# Altium schematic symbol library Schlib1.SchLib: 11 symbols
Pins are listed as number, name and electrical type; pins without a type are passive.

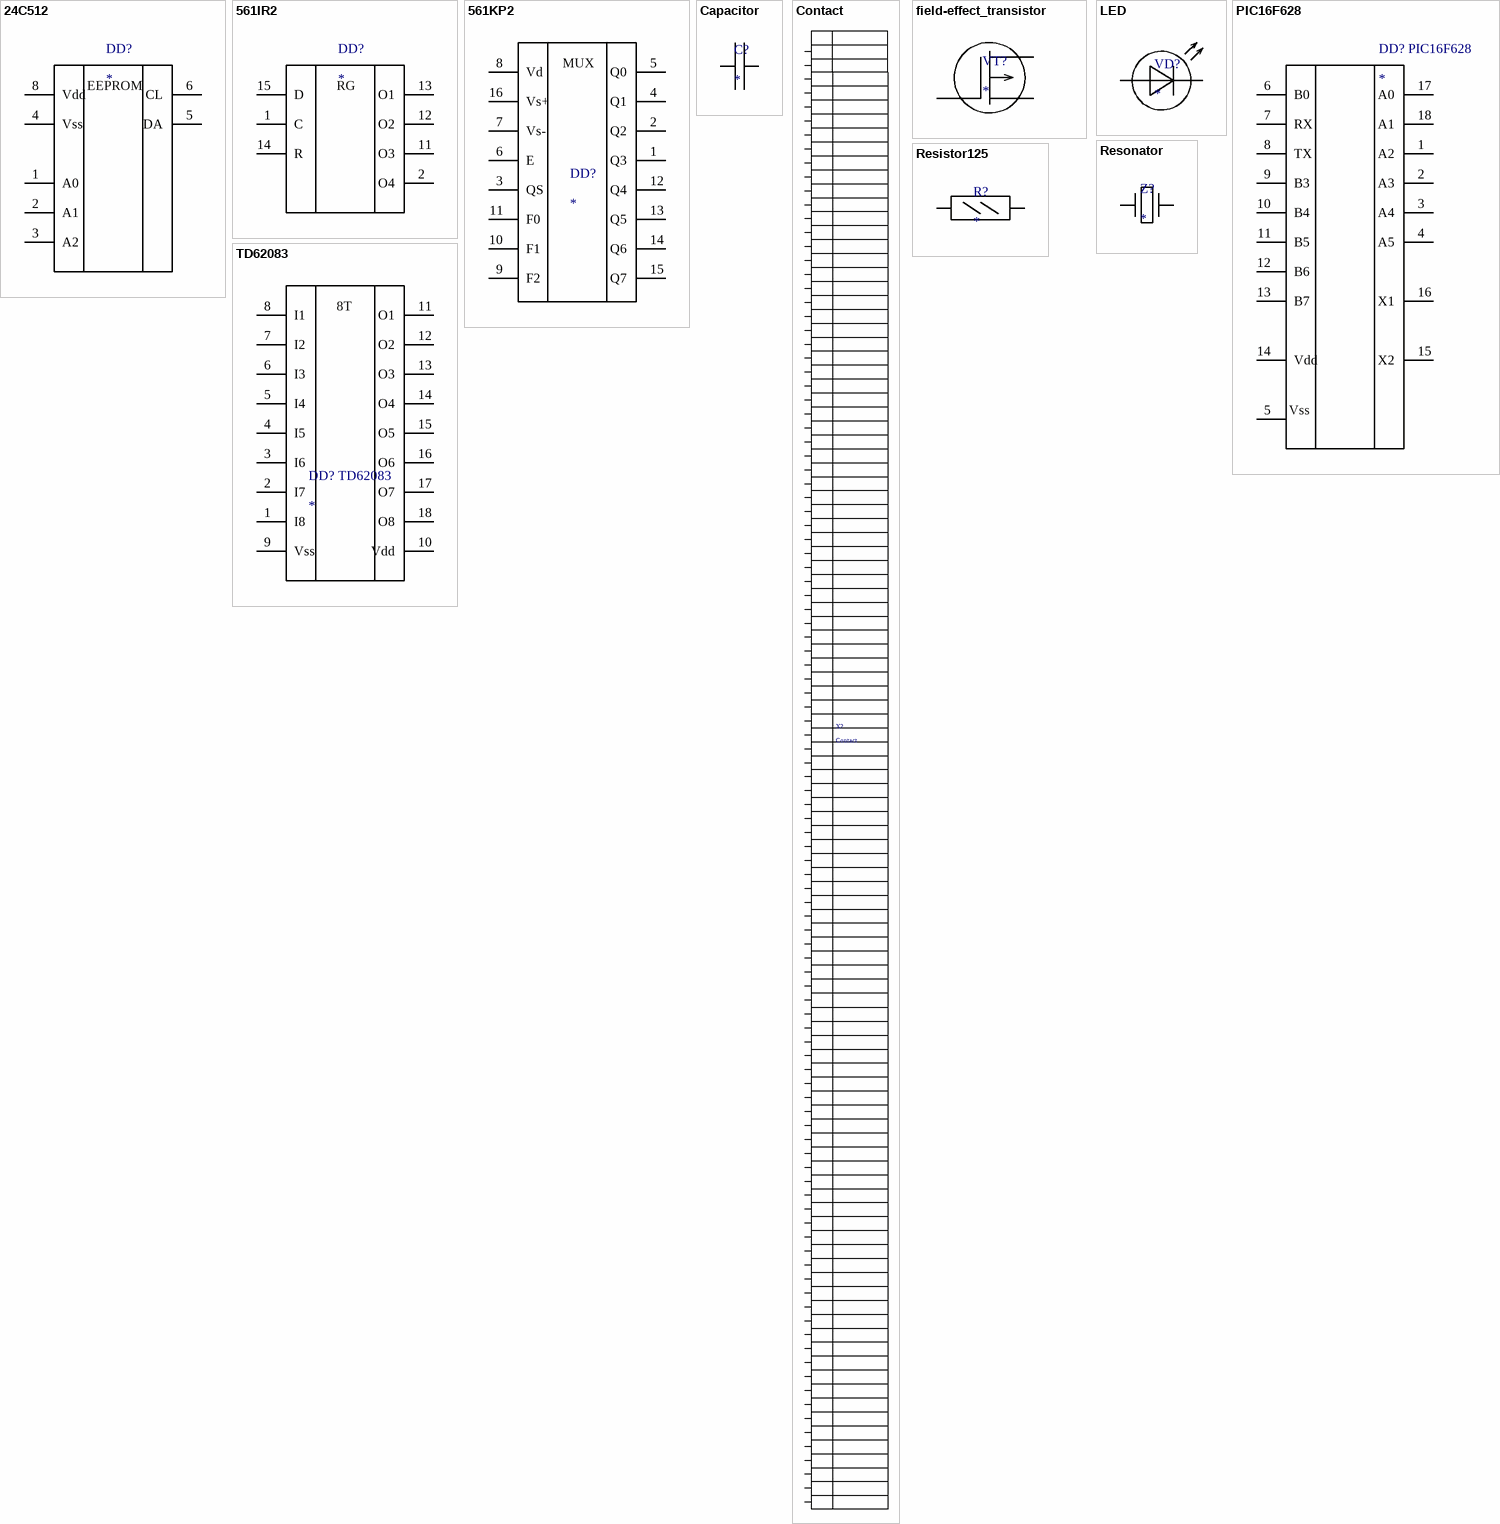
[diagram p0: symbols 24C512 to TD62083]

## 24C512
designator DD?
EEPROM/24C512-SMD
footprint 24C512 (SOIC, 8-Leads, Body 4,90x3,90mm, Pitch 1,27mm, IPC Medium Density)
pins: 1 A0, 2 A1, 3 A2, 4 Vss, 5 DA, 6 CL, 8 Vdd
text: EEPROM

## 561IR2
designator DD?
Регистр сдвига
footprint CD4015 (SOIC, 16-Leads, Body 12,80x7,50mm, Pitch 1,27mm, IPC Medium Density)
pins: 1 C, 2 O4, 11 O3, 12 O2, 13 O1, 14 R, 15 D
text: RG

## 561KP2
designator DD?
Мультиплексор/Аналог 4051М smd
footprint 561KP2 (SOIC, 16-Leads, Body 12,80x7,50mm, Pitch 1,27mm, IPC Medium Density)
pins: 1 Q3, 2 Q2, 3 QS, 4 Q1, 5 Q0, 6 E, 7 Vs-, 8 Vd, 9 F2, 10 F1, 11 F0, 12 Q4, 13 Q5, 14 Q6, 15 Q7, 16 Vs+
text: MUX

## Capacitor
designator С?
Конденсатор
footprint C_0805 (SMD-конденсатор)
pins: 3, 4

## Contact
designator X?
footprint Connector
pins: 1, 2, 3, 4, 5, 6, 7, 8, 9, 10, 11, 12, 13, 14, 15, 16, 17, 18, 19, 20, 21, 22, 23, 24, 25, 26, 27, 28, 29, 30, 31, 32, 33, 34, 35, 36, 37, 38, 39, 40, 41, 42, 43, 44, 45, 46, 47, 48, 49, 50, 51, 52, 53, 54, 55, 56, 57, 58, 59, 60, 61, 62, 63, 64, 65, 66, 67, 68, 69, 70, 71, 72, 73, 74, 75, 76, 77, 78, 79, 80, 81, 82, 83, 84, 85, 86, 87, 88, 89, 90, 91, 92, 93, 94, 95, 96, 97, 98, 99, 100, 101, 102, 103, 104, 105

## field-effect_transistor
designator VT?
Полевой транзистор/Аналог AUIRFR6215
footprint VT_Dpak (D-PAK, 3-Pads, Body 6,21x6,72mm (max), IPC Medium Density)
pins: 7, 8, 9

## LED
designator VD?
Светодиод/Аналог BL-LS0805UHR
footprint LED_0805 (SMD-LED)
pins: 5, 6

## PIC16F628
designator DD? PIC16F628
Микроконтроллер
footprint PIC16F628 (SOIC, 18-Leads, Body 11,58x7,50mm, Pitch 1,27mm, IPC Medium Density)
pins: 1 A2, 2 A3, 3 A4, 4 A5, 5 21, 6 B0, 7 RX, 8 TX, 9 B3, 10 B4, 11 B5, 12 B6, 13 B7, 14 Vdd, 15 X2, 16 X1, 17 A0, 18 A1
text: Vss

## Resistor125
designator R?
Резистор 0.125Вт
footprint R_0805 (Chip Resistor, 2-Leads, Body 2,00x1,25mm, IPC Medium Density)
pins: 1, 2

## Resonator
designator Z?
Резонатор/КХ-13
footprint quartz
pins: 10, 11

## TD62083
designator DD? TD62083
Darlington Sink Driver
footprint TD62083 (SOP, 18-Leads, Body 10,80x7,50mm, Pitch 1,27mm, IPC Medium Density)
pins: 1 I8, 2 I7, 3 I6, 4 I5, 5 I4, 6 I3, 7 I2, 8 I1, 9 Vss, 10 Vdd, 11 O1, 12 O2, 13 O3, 14 O4, 15 O5, 16 O6, 17 O7, 18 O8
text: 8T